# Altium schematic symbol library Lib.SCHLIB: 21 symbols
Pins are listed as number, name and electrical type; pins without a type are passive.

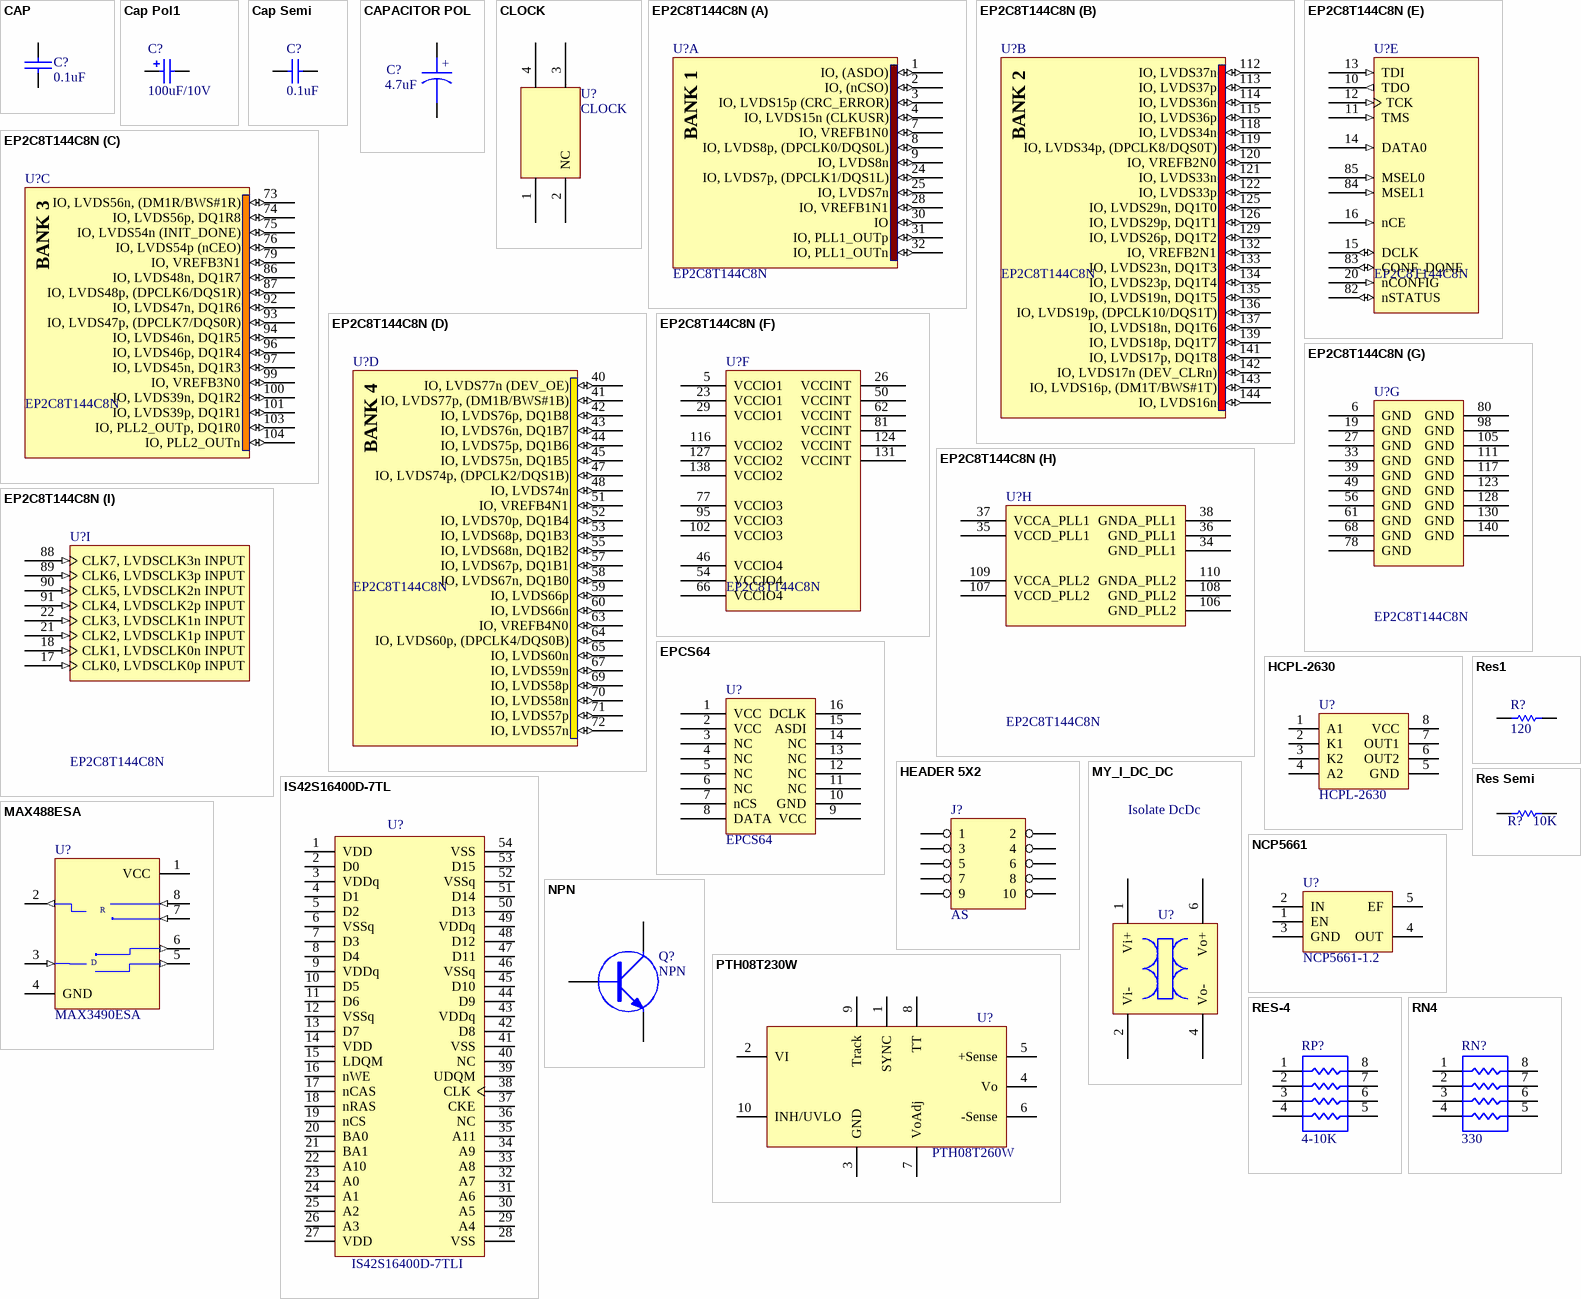
[diagram p0: symbols CAP to RN4]

## CAP
designator C?, comment 0.1uF
Capacitor
footprint 0805-X
footprint CR2012-0805
pins: 1, 2
2 alternate drawings of the same symbol

## Cap Pol1
designator C?, comment 100uF/10V
10V, X7R; Published: 8-Jun-2000; LatestRevisionDate: 17-Jul-2002; LatestRevisionNote: Re-released for DXP Platform.; PackageReference: RB7.6-15; Publisher: Altium Limited; Value: 100uF/10V
footprint CC7343
pins: 1, 2
1 alternate drawing of the same symbol

## Cap Semi
designator C?, comment 0.1uF
Capacitor (Semiconductor SIM Model); Published: 8-Jun-2000; LatestRevisionDate: 17-Jul-2002; LatestRevisionNote: Re-released for DXP Platform.; PackageReference: C1206; Publisher: Altium Limited; Value: 0.1uF
footprint 0805-X
footprint CR2012-0805
pins: 1, 2

## CAPACITOR POL
designator C?, comment 4.7uF
Capacitor
footprint CC3225-1210
pins: 1, 2
text: +

## CLOCK
designator U?
Text Field1: CLOCK; CLOCK: *
footprint SMX_20MH
pins: 1, 2 NC, 3, 4
2 alternate drawings of the same symbol

## EP2C8T144C8N
designator U?
Cyclone II Family, 1.2V FPGA, 85 I/O Pins, 2 PLLs, 144-Pin TQFP, Speed Grade 8, Commercial Grade, Pb-Free; Published: 4-Mar-2005; LatestRevisionDate: 14-May-2007; LatestRevisionNote: DATA0 pin is now INPUT.; DatasheetVersion: ver3.2, Apr-2007; PackageVersion: ver14.6, Feb-2007; PackageReference: TQFP144; Publisher: Altium Limited; PackageDescription: 144-Pin Plastic Thin Quad Flat Pack (TQFP144) - Wire Bond; Code_JEDEC: MS-026-BFB; ComponentLink1Description: Manufacturer Link; ComponentLink1URL: http://www.altera.com/products/devices/cyclone2/cy2-index.jsp; ComponentLink2Description: Handbook; ComponentLink2URL: http://www.altera.com/literature/hb/cyc2/cyc2_cii5v1.pdf; ComponentLink3Description: Packaging Specification; ComponentLink3URL: http://www.altera.com/literature/ds/dspkg.pdf
3D model EP2C8-TQFP144 (144-Pin Plastic Thin Quad Flat Pack (TQFP144) - Wire Bond)
signal-integrity model EP2C8T_144 (Cyclone II)
footprint F-QFP20X20-G144/N
part A pins: 1 IO, (ASDO) (io), 2 IO, (nCSO) (io), 3 IO, LVDS15p (CRC_ERROR) (io), 4 IO, LVDS15n (CLKUSR) (io), 7 IO, VREFB1N0 (io), 8 IO, LVDS8p, (DPCLK0/DQS0L) (io), 9 IO, LVDS8n (io), 24 IO, LVDS7p, (DPCLK1/DQS1L) (io), 25 IO, LVDS7n (io), 28 IO, VREFB1N1 (io), 30 IO (io), 31 IO, PLL1_OUTp (io), 32 IO, PLL1_OUTn (io)
part B pins: 112 IO, LVDS37n (io), 113 IO, LVDS37p (io), 114 IO, LVDS36n (io), 115 IO, LVDS36p (io), 118 IO, LVDS34n (io), 119 IO, LVDS34p, (DPCLK8/DQS0T) (io), 120 IO, VREFB2N0 (io), 121 IO, LVDS33n (io), 122 IO, LVDS33p (io), 125 IO, LVDS29n, DQ1T0 (io), 126 IO, LVDS29p, DQ1T1 (io), 129 IO, LVDS26p, DQ1T2 (io), 132 IO, VREFB2N1 (io), 133 IO, LVDS23n, DQ1T3 (io), 134 IO, LVDS23p, DQ1T4 (io), 135 IO, LVDS19n, DQ1T5 (io), 136 IO, LVDS19p, (DPCLK10/DQS1T) (io), 137 IO, LVDS18n, DQ1T6 (io), 139 IO, LVDS18p, DQ1T7 (io), 141 IO, LVDS17p, DQ1T8 (io), 142 IO, LVDS17n (DEV_CLRn) (io), 143 IO, LVDS16p, (DM1T/BWS#1T) (io), 144 IO, LVDS16n (io)
part C pins: 73 IO, LVDS56n, (DM1R/BWS#1R) (io), 74 IO, LVDS56p, DQ1R8 (io), 75 IO, LVDS54n (INIT_DONE) (io), 76 IO, LVDS54p (nCEO) (io), 79 IO, VREFB3N1 (io), 86 IO, LVDS48n, DQ1R7 (io), 87 IO, LVDS48p, (DPCLK6/DQS1R) (io), 92 IO, LVDS47n, DQ1R6 (io), 93 IO, LVDS47p, (DPCLK7/DQS0R) (io), 94 IO, LVDS46n, DQ1R5 (io), 96 IO, LVDS46p, DQ1R4 (io), 97 IO, LVDS45n, DQ1R3 (io), 99 IO, VREFB3N0 (io), 100 IO, LVDS39n, DQ1R2 (io), 101 IO, LVDS39p, DQ1R1 (io), 103 IO, PLL2_OUTp, DQ1R0 (io), 104 IO, PLL2_OUTn (io)
part D pins: 40 IO, LVDS77n (DEV_OE) (io), 41 IO, LVDS77p, (DM1B/BWS#1B) (io), 42 IO, LVDS76p, DQ1B8 (io), 43 IO, LVDS76n, DQ1B7 (io), 44 IO, LVDS75p, DQ1B6 (io), 45 IO, LVDS75n, DQ1B5 (io), 47 IO, LVDS74p, (DPCLK2/DQS1B) (io), 48 IO, LVDS74n (io), 51 IO, VREFB4N1 (io), 52 IO, LVDS70p, DQ1B4 (io), 53 IO, LVDS68p, DQ1B3 (io), 55 IO, LVDS68n, DQ1B2 (io), 57 IO, LVDS67p, DQ1B1 (io), 58 IO, LVDS67n, DQ1B0 (io), 59 IO, LVDS66p (io), 60 IO, LVDS66n (io), 63 IO, VREFB4N0 (io), 64 IO, LVDS60p, (DPCLK4/DQS0B) (io), 65 IO, LVDS60n (io), 67 IO, LVDS59n (io), 69 IO, LVDS58p (io), 70 IO, LVDS58n (io), 71 IO, LVDS57p (io), 72 IO, LVDS57n (io)
part E pins: 10 TDO (out), 11 TMS (in), 12 TCK (in), 13 TDI (in), 14 DATA0 (in), 15 DCLK (io), 16 nCE (in), 20 nCONFIG (in), 82 nSTATUS (io), 83 CONF_DONE (io), 84 MSEL1 (in), 85 MSEL0 (in)
part F pins: 5 VCCIO1 (power), 23 VCCIO1 (power), 26 VCCINT (power), 29 VCCIO1 (power), 46 VCCIO4 (power), 50 VCCINT (power), 54 VCCIO4 (power), 62 VCCINT (power), 66 VCCIO4 (power), 77 VCCIO3 (power), 81 VCCINT (power), 95 VCCIO3 (power), 102 VCCIO3 (power), 116 VCCIO2 (power), 124 VCCINT (power), 127 VCCIO2 (power), 131 VCCINT (power), 138 VCCIO2 (power)
part G pins: 6 GND (power), 19 GND (power), 27 GND (power), 33 GND (power), 39 GND (power), 49 GND (power), 56 GND (power), 61 GND (power), 68 GND (power), 78 GND (power), 80 GND (power), 98 GND (power), 105 GND (power), 111 GND (power), 117 GND (power), 123 GND (power), 128 GND (power), 130 GND (power), 140 GND (power)
part H pins: 34 GND_PLL1 (power), 35 VCCD_PLL1 (power), 36 GND_PLL1 (power), 37 VCCA_PLL1 (power), 38 GNDA_PLL1 (power), 106 GND_PLL2 (power), 107 VCCD_PLL2 (power), 108 GND_PLL2 (power), 109 VCCA_PLL2 (power), 110 GNDA_PLL2 (power)
part I pins: 17 CLK0, LVDSCLK0p INPUT (in), 18 CLK1, LVDSCLK0n INPUT (in), 21 CLK2, LVDSCLK1p INPUT (in), 22 CLK3, LVDSCLK1n INPUT (in), 88 CLK7, LVDSCLK3n INPUT (in), 89 CLK6, LVDSCLK3p INPUT (in), 90 CLK5, LVDSCLK2n INPUT (in), 91 CLK4, LVDSCLK2p INPUT (in)
part A text: BANK 1
part B text: BANK 2
part C text: BANK 3
part D text: BANK 4

## EPCS64
designator U?
EPCS16 64 128
footprint SO-G16/E6.9
pins: 1 VCC, 2 VCC, 3 NC, 4 NC, 5 NC, 6 NC, 7 nCS, 8 DATA, 9 VCC, 10 GND, 11 NC, 12 NC, 13 NC, 14 NC, 15 ASDI, 16 DCLK

## HCPL-2630
designator U?
footprint SO-G8/Z10.8
pins: 1 A1, 2 K1, 3 K2, 4 A2, 5 GND (power), 6 OUT2 (oc), 7 OUT1 (oc), 8 VCC (power)
2 alternate drawings of the same symbol

## HEADER 5X2
designator J?, comment AS
footprint HDR2X5
pins: 1, 2, 3, 4, 5, 6, 7, 8, 9, 10

## IS42S16400D-7TL
designator U?, comment IS42S16400D-7TLI
SDRAM,8MB;ISSI; Text Field7: Published 2003-5-26 by Yuan Xuewen
footprint TSOP2-54_W=11.76mm (Pitch=0.8mm)
pins: 1 VDD (power), 2 D0, 3 VDDq (power), 4 D1, 5 D2, 6 VSSq (power), 7 D3, 8 D4, 9 VDDq (power), 10 D5, 11 D6, 12 VSSq (power), 13 D7, 14 VDD (power), 15 LDQM, 16 nWE, 17 nCAS, 18 nRAS, 19 nCS, 20 BA0, 21 BA1, 22 A10, 23 A0, 24 A1, 25 A2, 26 A3, 27 VDD (power), 28 VSS (power), 29 A4, 30 A5, 31 A6, 32 A7, 33 A8, 34 A9, 35 A11, 36 NC, 37 CKE, 38 CLK, 39 UDQM, 40 NC, 41 VSS (power), 42 D8, 43 VDDq (power), 44 D9, 45 D10, 46 VSSq (power), 47 D11, 48 D12, 49 VDDq (power), 50 D13, 51 D14, 52 VSSq (power), 53 D15, 54 VSS (power)

## MAX488ESA
designator U?, comment MAX3490ESA
Low-Power, Slew-Rate-Limited RS-485/RS-422 Transceiver; Published: 16-Jan-2001; LatestRevisionDate: 13-Apr-2006; LatestRevisionNote: IPC-7351 Footprint Added.; DatasheetVersion: Feb-1996; PackageReference: NSO8; Publisher: Altium Limited; PackageDescription: 8-Pin Small Outline Integrated Circuit 1.27 mm Pitch; Code_JEDEC: MS-012-AA; Code_IPC: SOIC127P600-8; ComponentLink1Description: Manufacturer Link; ComponentLink1URL: http://www.maxim-ic.com/; ComponentLink2Description: Datasheet; ComponentLink2URL: http://pdfserv.maxim-ic.com/en/ds/MAX1487-MAX491.pdf
footprint SO8.W=6.0
3D model NSO8 (8-Pin Small Outline Integrated Circuit 1.27 mm Pitch)
pins: 1 VCC (power), 2 RO (out), 3 DI (in), 4 GND (power), 5 Y (out), 6 Z (out), 7 B (in), 8 A (in)
text: R; D

## MY_I_DC_DC
designator U?, comment Isolate DcDc
footprint IB0505LS
pins: 1 Vi+, 2 Vi-, 4 Vo-, 6 Vo+

## NCP5661
designator U?, comment NCP5661-1.2
footprint DPAK5
pins: 1 EN (power), 2 IN (power), 3 GND (power), 4 OUT (power), 5 EF (power)

## NPN
designator Q?
NPN Transistor
footprint 3DG130BJ_NPN
pins: 1 B, 2 C, 3 E
2 alternate drawings of the same symbol

## PTH08T230W
designator U?, comment PTH08T260W
TI电源模块
footprint TI_R-PDSS-T10 (R-PDSS-T10,TI Power)
pins: 1 SYNC, 2 VI (power), 3 GND (power), 4 Vo (power), 5 +Sense, 6 -Sense, 7 VoAdj (power), 8 TT, 9 Track, 10 INH/UVLO

## Res1
designator R?, comment 120
Resistor; Published: 8-Jun-2000; LatestRevisionDate: 17-Jul-2002; LatestRevisionNote: Re-released for DXP Platform.; PackageReference: AXIAL-0.3; Publisher: Altium Limited; Value: 120
simulation model RESISTOR (Resistor)
signal-integrity model Res
footprint CR3216-1206
pins: 1, 2

## Res Semi
designator R?, comment 10K
Semiconductor Resistor; Published: 8-Jun-2000; LatestRevisionDate: 17-Jul-2002; LatestRevisionNote: Re-released for DXP Platform.; PackageReference: AXIAL-0.5; Publisher: Altium Limited; Value: 10K
simulation model RES (Semiconductor Resistor)
signal-integrity model Res Semi
footprint 0805-X
footprint CR2012-0805
pins: 1, 2

## RES-4
designator RP?, comment 4-10K
footprint CRP4.1608 (RP4,Pitch=0.8mm,W=1.6mm)
pins: 1, 2, 3, 4, 5, 6, 7, 8

## RN4
designator RN?, comment 330
Resistor Array,include 4 resistor in one chip
footprint CRP4.1608 (RP4,Pitch=0.8mm,W=1.6mm)
pins: 1, 2, 3, 4, 5, 6, 7, 8

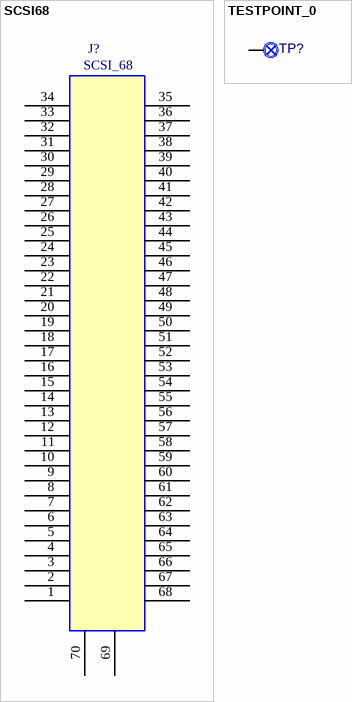
[diagram p1: symbols SCSI68 to TESTPOINT_0]

## SCSI68
designator J?, comment SCSI_68
footprint SCSI68
pins: 1, 2, 3, 4, 5, 6, 7, 8, 9, 10, 11, 12, 13, 14, 15, 16, 17, 18, 19, 20, 21, 22, 23, 24, 25, 26, 27, 28, 29, 30, 31, 32, 33, 34, 35, 36, 37, 38, 39, 40, 41, 42, 43, 44, 45, 46, 47, 48, 49, 50, 51, 52, 53, 54, 55, 56, 57, 58, 59, 60, 61, 62, 63, 64, 65, 66, 67, 68, 69, 70

## TESTPOINT_0
designator TP?, comment TESTPOINT  (value not drawn)
PARTS: 1; DEVICE: TEST-SMD; LEVEL: STD; PKG_TYPE: TP24-SMD; OriginalSymbolOrigin: (20,20); PCB Footprint: TP24-SMD
footprint TP24-SMD
pins: 1